# Altium footprint library RPI GPIO BOARD.PcbLib: 4 footprints
Each footprint in its own frame and in the unit in brackets; x right, y up, seen from the top. Pads: shape width x height; smd on the part's side, far side on the other; paste and mask are expansions set on the pad; w line width, h text height; cw(c..) or ccw(c..) is an arc to the next point about the centre after c.
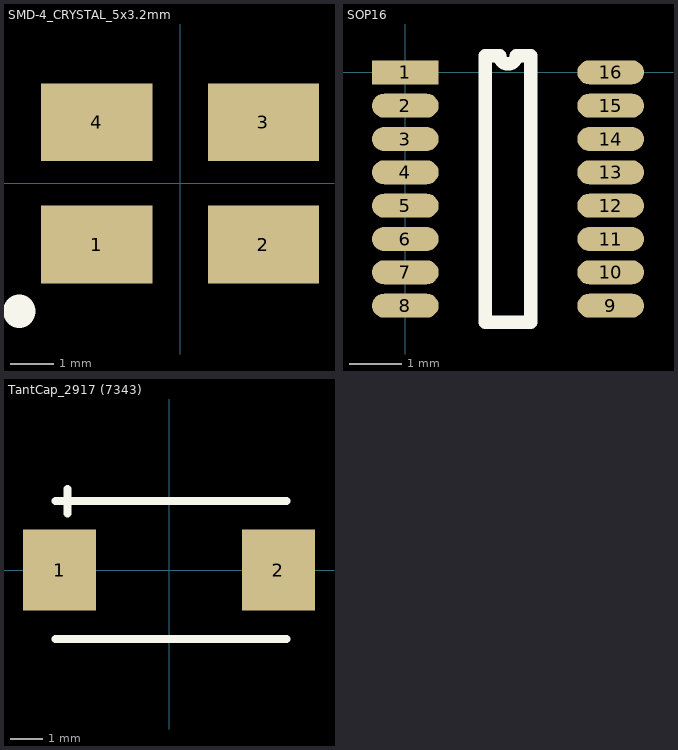
[diagram p0: the footprints below, top view; thin cyan lines are the x and y axes]

## LTC1863 [mil] "SOIC-16"
3D body: height 10, standoff 0, extent -37.5,-55 37.5,55
3D body: height 10, standoff 0, extent 40,-85 40,-85
3D body: height 10, standoff 0, extent 40,-85 40,-85
3D body: height 10, standoff 0, extent 30,-75 30,-75
3D body: height 10, standoff 0, extent -35,50 -35,50

## SMD-4_CRYSTAL_5x3.2mm [mil]
height 59.06
pads (4):
  rect 100x70 smd: 1(-75,-55) 2(75,-55) 3(75,55) 4(-75,55)
Top Overlay:
  lines w30: -145,-115 -145,-115
3D body: height 47.24, standoff 0, extent -98.42,-62.99 98.43,63

## SOP16 [mil]
pads (16):
  rect 50x18 smd: 1(0,0)
  oval 50x18 smd: 2(0,-25) 3(0,-50) 4(0,-75) 5(0,-100) 6(0,-125) 7(0,-150) 8(0,-175) 9(154,-175) 10(154,-150) 11(154,-125) 12(154,-100) 13(154,-75) 14(154,-50) 15(154,-25) 16(154,0)
Top Overlay:
  lines w10: 60,-187.5 60,12.5 70.75,12.5 ccw(c77,12.5) 83.25,12.5 94,12.5 94,-187.5 60,-187.5
3D body: height 60, standoff 10, extent 20,-190 135,15

## TantCap_2917 (7343) [mil]
height 118.11
pads (2):
  rect 90x100 smd: 1(-135,0) 2(135,0)
Top Overlay:
  lines w10: -140,-85 145,-85 ; -140,85 90,85 145,85 ; -125,70 -125,100
3D body: height 120, standoff 10, extent -140,-85 145,85